# EAGLE library part HALL_EFFECT (library ZMPLC)
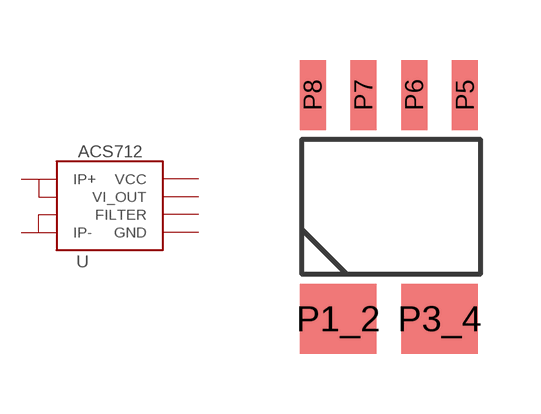
[diagram p22: symbol with the pads of SOIC8_ALLEGRO; footprint SOIC8_ALLEGRO]

Designator prefix -

## HALL_EFFECT  [SOIC8_ALLEGRO]
P1_2  IP+  pas
P3_4  IP-  pas
P5  GND  pwr
P6  FILTER  pas
P7  VI_OUT
P8  VCC  pwr

## Footprint SOIC8_ALLEGRO (pad centres in mm)
smd 1.92 x 1.75: P1_2 0.635,-2.8; P3_4 3.175,-2.8
smd 0.65 x 1.75: P5 3.81,2.8; P6 2.54,2.8; P7 1.27,2.8; P8 0,2.8